# EAGLE library part SC2596 (library ic-Semtech)
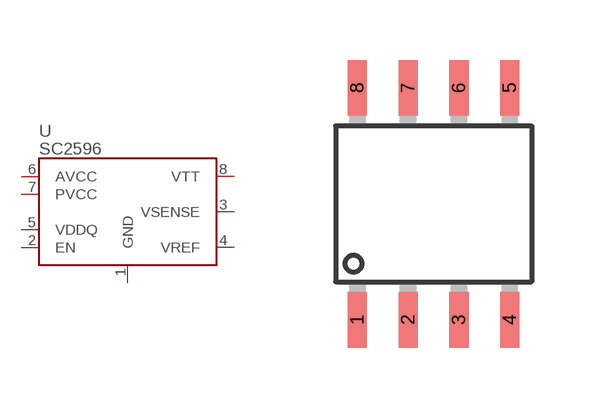
[diagram p1: symbol with the pads of SOP8; footprint SOP8]

Designator prefix U

## SC2596  [SOP8]
1  GND
2  EN
3  VSENSE
4  VREF
5  VDDQ
6  AVCC
7  PVCC
8  VTT

## Footprint SOP8 (pad centres in mm)
smd 0.48 x 1.4: 1 -1.905,-2.9; 2 -0.635,-2.9; 3 0.635,-2.9; 4 1.905,-2.9; 5 1.905,2.9; 6 0.635,2.9; 7 -0.635,2.9; 8 -1.905,2.9